# EAGLE library part TPS82130 (library TPS82130)
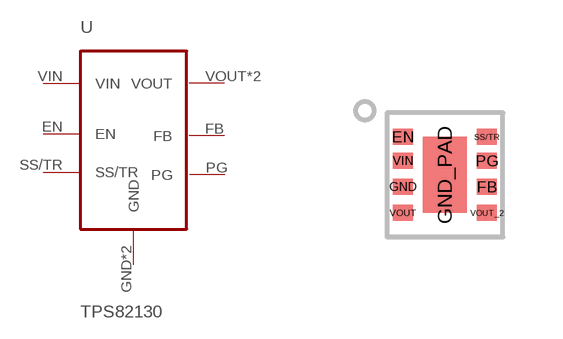
[diagram p0: symbol with the pads of TPS82130; footprint TPS82130]

Designator prefix -

## TPS82130  [TPS82130]
EN  EN
FB  FB
GND  GND
GND_PAD  GND
PG  PG
SS/TR  SS/TR
VIN  VIN
VOUT  VOUT
VOUT_2  VOUT

## Footprint TPS82130 (pad centres in mm)
smd 0.5 x 0.4: EN -1.05,0.95; FB 1.05,-0.3; GND -1.05,-0.3; PG 1.05,0.35; SS/TR 1.05,0.95; VIN -1.05,0.35; VOUT -1.05,-0.95; VOUT_2 1.05,-0.95
smd 1.1 x 1.9: GND_PAD 0,0